# Altium footprint library SW-18010P.PcbLib: 1 footprints
Each footprint in its own frame and in the unit in brackets; x right, y up, seen from the top. Pads: shape width x height; smd on the part's side, far side on the other; paste and mask are expansions set on the pad; w line width, h text height; cw(c..) or ccw(c..) is an arc to the next point about the centre after c.
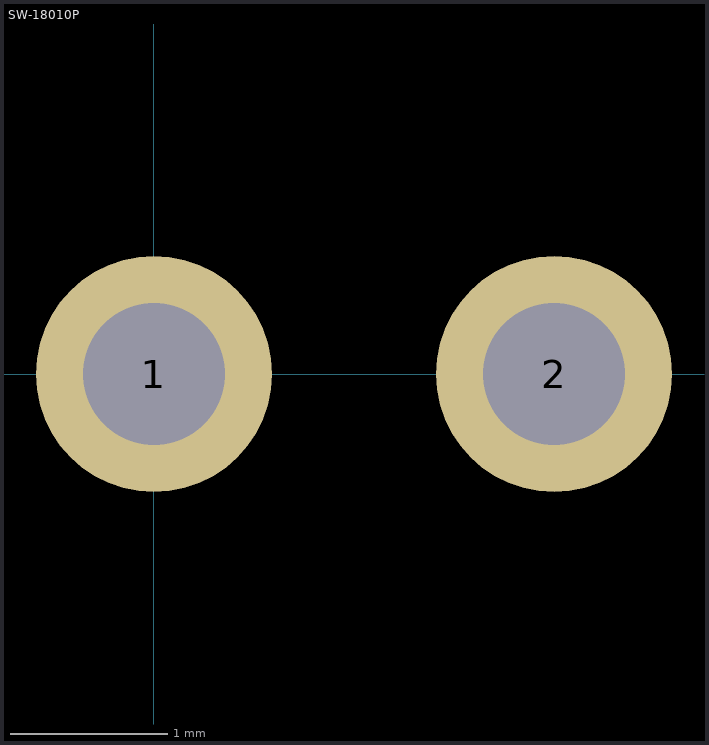
[diagram p0: the footprint, top view; thin cyan lines are the x and y axes]

## SW-18010P [mm]
pads (2):
  round 1.5 hole 0.9: 1(0,0) 2(2.54,0)
3D body "SW-18010P.STEP": height 4.5, standoff -1.35, extent -2.341,-16.696 2.159,0.254